# Altium footprint library 数码管.PcbLib: 7 footprints
Each footprint in its own frame and in the unit in brackets; x right, y up, seen from the top. Pads: shape width x height; smd on the part's side, far side on the other; paste and mask are expansions set on the pad; w line width, h text height; cw(c..) or ccw(c..) is an arc to the next point about the centre after c.
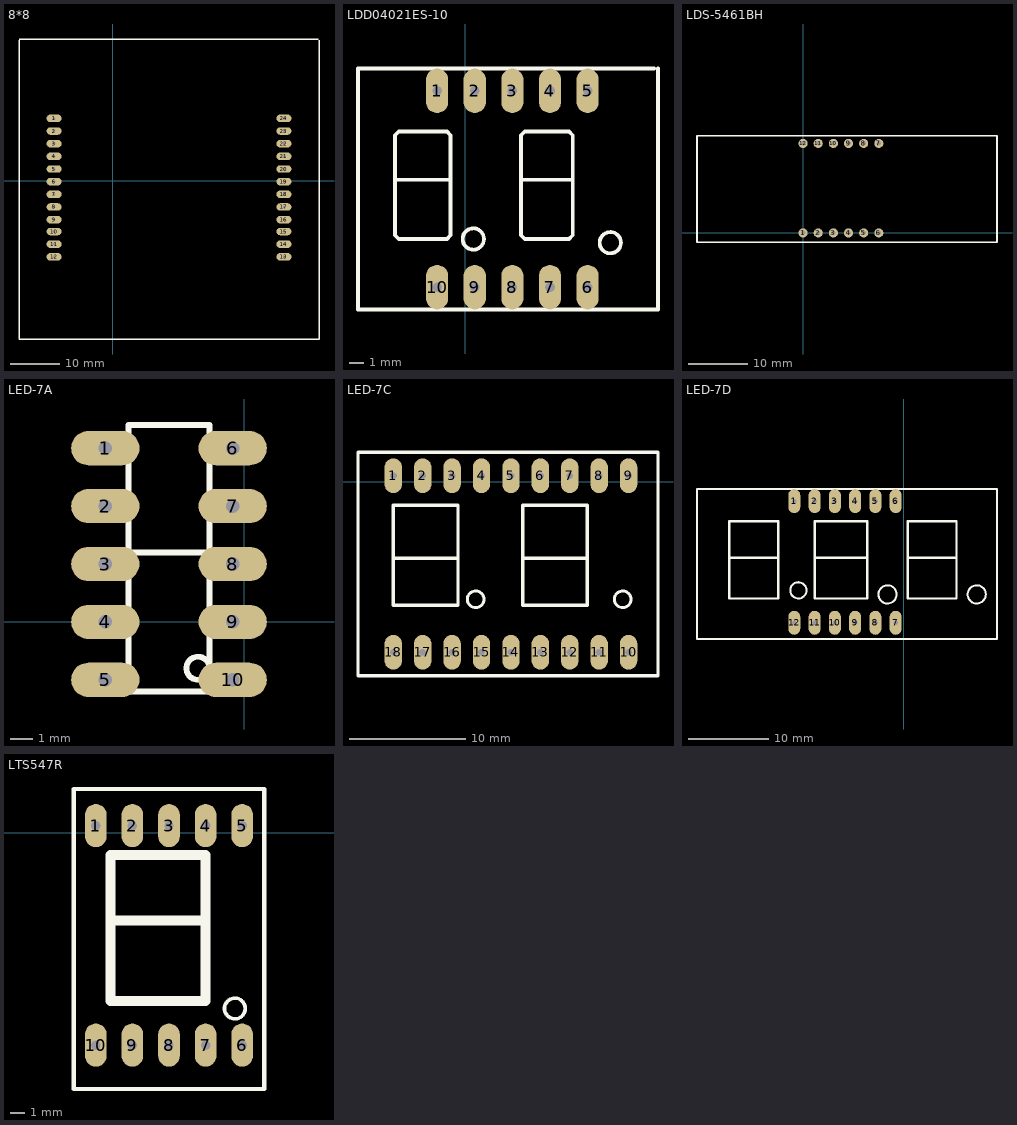
[diagram p0: the footprints below, top view; thin cyan lines are the x and y axes]

## 8*8 [mm]
pads (24):
  oval 3x1.5 hole 0.6: 1(-11.76,12.497) 2(-11.76,9.957) 3(-11.76,7.417) 4(-11.76,4.877) 5(-11.76,2.337) 6(-11.76,-0.203) 7(-11.76,-2.743) 8(-11.76,-5.283) 9(-11.76,-7.823) 10(-11.76,-10.211) 11(-11.76,-12.751) 12(-11.76,-15.291) 13(34.366,-15.291) 14(34.366,-12.751) 15(34.366,-10.211) 16(34.366,-7.823) 17(34.366,-5.283) 18(34.366,-2.743) 19(34.366,-0.203) 20(34.366,2.337) 21(34.366,4.877) 22(34.366,7.417) 23(34.366,9.957) 24(34.366,12.497)
TopOverlay:
  lines w0.254: -18.796,28.219 -18.796,-31.775 41.402,-31.775 41.402,28.219 ; -18.796,28.423 41.3,28.423

## LDD04021ES-10 [mm]
pads (10):
  oval 1.5x3 hole 0.65: 1(-1.91,-12.5) 2(0.63,-12.5) 3(3.17,-12.5) 4(5.71,-12.5) 5(8.25,-12.5) 6(8.25,-25.75) 7(5.71,-25.75) 8(3.17,-25.75) 9(0.63,-25.75) 10(-1.91,-25.75)
TopOverlay:
  circle w0.254: c0.532,-22.5 r0.718
  circle w0.254: c9.782,-22.75 r0.718
  lines w0.254: -4.75,-18.5 -1.25,-18.5 -1,-18.5 ; 3.75,-18.5 7.25,-18.5 ; 12.75,-11 -7.25,-11 -7.25,-27.25 13,-27.25 13,-11 ; -4.75,-22.25 -4.5,-22.5 -1.25,-22.5 -1,-22.25 -1,-15.5 -1.25,-15.25 -4.5,-15.25 -4.75,-15.5 -4.75,-16.25 -4.75,-22.25 ; 3.75,-22.25 4,-22.5 7,-22.5 7.25,-22.25 7.25,-15.5 7,-15.25 4,-15.25 3.75,-15.5 3.75,-22.25

## LDS-5461BH [mil]
pads (12):
  round 60 hole 30: 1(0,0) 2(100,0) 3(200,0) 4(300,0) 5(400,0) 6(500,0) 7(500,590.55) 8(400,590.55) 9(300,590.55) 10(200,590.55) 11(100,590.55) 12(0,590.55)
TopOverlay:
  lines w10: -700,-60 1280,-60 1280,640 -700,640 -700,-60

## LED-7A [mm]
pads (10):
  oval 3x1.5 hole 0.6: 1(-6.096,7.62) 2(-6.096,5.08) 3(-6.096,2.54) 4(-6.096,0) 5(-6.096,-2.54) 6(-0.508,7.62) 7(-0.508,5.08) 8(-0.508,2.54) 9(-0.508,0) 10(-0.508,-2.54)
TopOverlay:
  circle w0.254: c-2.032,-2.032 r0.508
  lines w0.254: -5.08,3.048 -1.524,3.048 ; -5.08,-3.048 -5.08,8.636 -1.524,8.636 -1.524,-3.048 -5.08,-3.048

## LED-7C [mm]
pads (18):
  oval 1.5x3 hole 0.6: 1(6.604,0.508) 2(9.144,0.508) 3(11.684,0.508) 4(14.224,0.508) 5(16.764,0.508) 6(19.304,0.508) 7(21.844,0.508) 8(24.384,0.508) 9(26.924,0.508) 10(26.924,-14.732) 11(24.384,-14.732) 12(21.844,-14.732) 13(19.304,-14.732) 14(16.764,-14.732) 15(14.224,-14.732) 16(11.684,-14.732) 17(9.144,-14.732) 18(6.604,-14.732)
TopOverlay:
  circle w0.254: c13.716,-10.16 r0.718
  circle w0.254: c26.416,-10.16 r0.718
  lines w0.3: 4.064,2.54 29.464,2.54 29.464,-16.764 3.556,-16.764 3.556,2.54 4.572,2.54 ; 6.604,-6.604 12.192,-6.604 ; 17.78,-6.604 23.368,-6.604 ; 6.604,-10.668 12.192,-10.668 12.192,-2.032 6.604,-2.032 6.604,-10.668 ; 17.78,-10.668 23.368,-10.668 23.368,-2.032 17.78,-2.032 17.78,-10.668

## LED-7D [mm]
pads (12):
  oval 1.5x3 hole 0.6: 1(-13.716,30.48) 2(-11.176,30.48) 3(-8.636,30.48) 4(-6.096,30.48) 5(-3.556,30.48) 6(-1.016,30.48) 7(-1.016,15.24) 8(-3.556,15.24) 9(-6.096,15.24) 10(-8.636,15.24) 11(-11.176,15.24) 12(-13.716,15.24)
TopOverlay:
  circle w0.254: c9.144,18.796 r1.136
  circle w0.254: c-2.032,18.796 r1.136
  circle w0.254: c-13.208,19.304 r1.016
  lines w0.3: -21.844,23.368 -15.748,23.368 ; -11.176,23.368 -4.572,23.368 ; 0.508,23.368 6.604,23.368 ; -25.908,13.208 11.684,13.208 11.684,32.004 11.176,32.004 -25.908,32.004 -25.908,13.208 ; -21.844,18.288 -21.336,18.288 -15.748,18.288 -15.748,27.94 -21.844,27.94 -21.844,18.288 ; -11.176,18.288 -11.176,27.94 -4.572,27.94 -4.572,18.288 -11.176,18.288 ; 0.508,18.288 0.508,27.94 6.604,27.94 6.604,18.288 0.508,18.288

## LTS547R [mm]
pads (10):
  oval 1.5x3 hole 0.65: 1(12.192,0.508) 2(14.732,0.508) 3(17.272,0.508) 4(19.812,0.508) 5(22.352,0.508) 6(22.352,-14.732) 7(19.812,-14.732) 8(17.272,-14.732) 9(14.732,-14.732) 10(12.192,-14.732)
TopOverlay:
  circle w0.254: c21.844,-12.192 r0.718
  lines w0.3: 21.844,3.048 23.876,3.048 23.876,-17.78 23.368,-17.78 10.668,-17.78 10.668,3.048 23.368,3.048
  lines w0.7: 13.208,-6.096 19.812,-6.096 ; 13.208,-11.684 19.812,-11.684 19.812,-1.524 13.208,-1.524 13.208,-11.684